# Altium footprint library StandardCapacitors.PcbLib: 8 footprints
Each footprint in its own frame and in the unit in brackets; x right, y up, seen from the top. Pads: shape width x height; smd on the part's side, far side on the other; paste and mask are expansions set on the pad; w line width, h text height; cw(c..) or ccw(c..) is an arc to the next point about the centre after c.
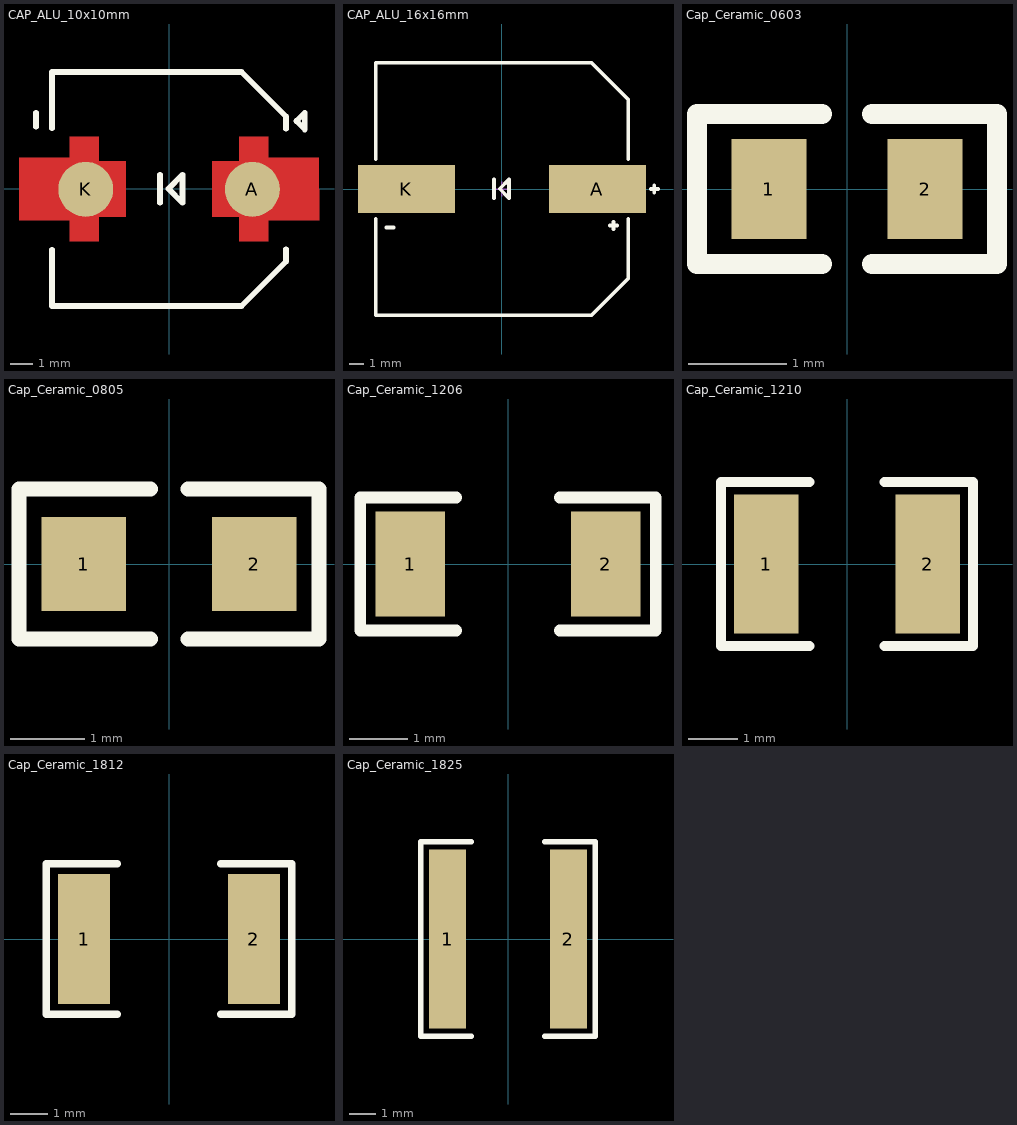
[diagram p0: the footprints below, top view; thin cyan lines are the x and y axes]

## CAP_ALU_10x10mm [mil]
pads (2):
  round 97.08 smd paste+0 mask+0: A(147.18,-0.5) K(-147.11,-0.5)
Top Layer:
  region: 76.8,-49.22 76.8,49.21 124.05,49.21 124.05,92.52 175.23,92.52 175.23,55 265,55 265,-55 175.23,-55 175.23,-92.52 124.05,-92.52 124.05,-49.22
  region: -76.74,-49.22 -76.74,49.21 -123.98,49.21 -123.98,92.52 -175.16,92.52 -175.16,55 -265,55 -265,-55 -175.16,-55 -175.16,-92.52 -123.98,-92.52 -123.98,-49.22
Top Overlay:
  lines w10: -235,110 -235,135 ; -206.66,-107.29 -206.66,-206.7 127.98,-206.7 206.72,-127.96 206.72,-106.3 ; -206.66,107.28 -206.66,206.69 127.98,206.69 206.72,127.95 206.72,106.3 ; -16.02,-24.54 -16.02,25.46 ; -1.02,0.46 23.98,25.46 23.98,-24.54 -1.02,0.46 ; 225,120 240,135 240,105 225,120
3D body "Cap_Panasonic_EEH-ZC1K470V_eec.STEP": height 10, standoff 0, extent -259.81,-216.54 259.87,216.53

## CAP_ALU_16x16mm [mil]
pads (2):
  rect 260x130 smd paste+0 mask+0: A(256.12,0.01) K(-256,0.01)
Top Overlay:
  lines w10: -338.52,-80 -338.52,-338.58 240.22,-338.58 338.64,-240.15 338.64,-80 ; -338.52,80 -338.52,338.59 240.22,338.59 338.64,240.16 338.64,80 ; -310.6,-103.02 -290.91,-103.02 ; -21.02,-24.54 -21.02,25.46 ; 289.4,-98.02 309.09,-98.02 ; 299.24,-107.87 299.24,-88.18 ; 398.84,0.01 418.53,0.01 ; 408.68,-9.84 408.68,9.85 ; -6.02,0.46 18.98,25.46 18.98,-24.54 -6.02,0.46
Mechanical 16:
  lines w3.94: -19.62,0.01 19.75,0.01 ; 0.06,-19.68 0.06,19.69
3D body "Cap_Panasonic_Electronic_Components_EEV-FK1H102M_eec.STEP": height 669.33, standoff 0, extent -348.36,-334.64 348.49,334.66

## Cap_Ceramic_0603 [mil]
pads (2):
  rect 30x40 smd: 1(-31.24,0) 2(31.24,0)
Top Overlay:
  lines w8: -10,-30 -60,-30 -60,30 -10,30 ; 10,-30 60,-30 60,30 10,30
3D body "ceramic_cap_0603.stp": height 33.46, standoff 0, extent -31.49,-15.74 31.51,15.75

## Cap_Ceramic_0805 [mil]
pads (2):
  rect 45x50 smd: 1(-45.43,0) 2(45.43,0)
Top Overlay:
  lines w8: -10,-40 -80,-40 -80,40 -10,40 ; 10,-40 80,-40 80,40 10,40
3D body "ceramic_cap_0805.stp": height 43.31, standoff 0, extent -39.36,-25.58 39.38,25.6

## Cap_Ceramic_1206 [mil]
pads (2):
  rect 47x71 smd: 1(-66.08,0) 2(66.08,0)
Top Overlay:
  lines w8: -35,-45 -100,-45 -100,45 -35,45 ; 35,-45 100,-45 100,45 35,45
3D body "ceramic_cap_1206.stp": height 53.15, standoff 0, extent -62.99,-31.49 63,31.5

## Cap_Ceramic_1210 [mm]
pads (2):
  rect 1.3x2.8 smd: 1(-1.625,0) 2(1.625,0)
Top Overlay:
  lines w0.203: -0.762,-1.651 -2.54,-1.651 -2.54,1.651 -0.762,1.651 ; 0.762,-1.651 2.54,-1.651 2.54,1.651 0.762,1.651
3D body "ceramic_cap_1210.stp": height 1.35, standoff 0, extent -1.6,-1.25 1.6,1.25

## Cap_Ceramic_1812 [mil]
pads (2):
  rect 55x138 smd: 1(-90,0) 2(90,0)
Top Overlay:
  lines w8: -55,-80 -130,-80 -130,80 -55,80 ; 55,-80 130,-80 130,80 55,80
3D body "ceramic_cap_1812.stp": height 53.15, standoff 0, extent -88.58,-62.99 88.59,63

## Cap_Ceramic_1825 [mm]
pads (2):
  rect 1.4x6.8 smd: 1(-2.286,0) 2(2.286,0)
Top Overlay:
  lines w0.203: -1.397,-3.683 -3.302,-3.683 -3.302,3.683 -1.397,3.683 ; 1.397,-3.683 3.302,-3.683 3.302,3.683 1.397,3.683
3D body "ceramic_cap_1825.stp": height 1.1, standoff 0, extent -2.25,-3.2 2.25,3.2